# Altium schematic symbol library MyLibrary.SchLib: 5 symbols
Pins are listed as number, name and electrical type; pins without a type are passive.

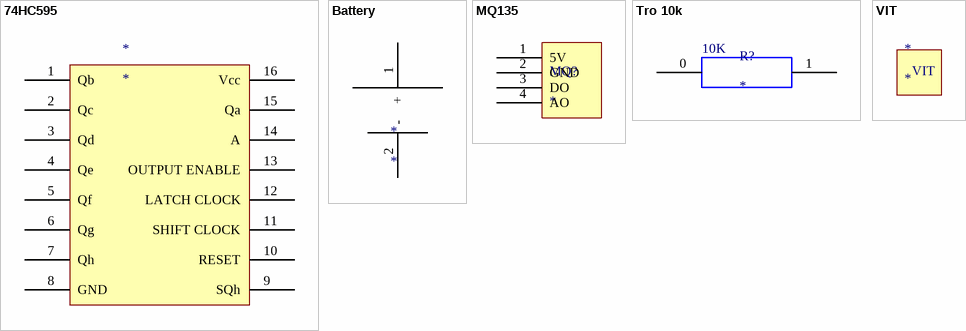
[diagram p0: symbols 74HC595 to VIT]

## 74HC595
designator *
pins: 1 Qb, 2 Qc, 3 Qd, 4 Qe, 5 Qf, 6 Qg, 7 Qh, 8 GND, 9 SQh, 10 RESET, 11 SHIFT CLOCK, 12 LATCH CLOCK, 13 OUTPUT ENABLE, 14 A, 15 Qa, 16 Vcc

## Battery
designator *
footprint Battery
pins: 1 +, 2 -

## MQ135
designator MQ?
footprint MQ135
pins: 1 5V, 2 GND, 3 DO, 4 AO

## Tro 10k
designator R?
footprint RES 10k
pins: 0, 1
text: 10K

## VIT
designator *
footprint VIT